# Altium schematic symbol library GRM155C80J225KE95D.SchLib: 1 symbol
Pins are listed as number, name and electrical type; pins without a type are passive.

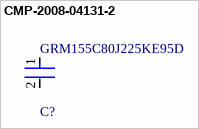
[diagram p0: symbol CMP-2008-04131-2]

## CMP-2008-04131-2
designator C?, comment GRM155C80J225KE95D
Chip Multilayer Ceramic Capacitors for General Purpose, 0402, 2.2uF, X6S, 22%, 10%, 6.3V; Width: 0.02inch; Packaging: Tape and Reel; Case/Package: 0402; Material: Ceramic; Voltage Rating: 6.3V; Thickness: 0.022inch; Length: 0.039inch; Max Operating Temperature: 105°C; Height: 0.3mm; Case Code (Imperial): 0402; Capacitance: 2.2uF; Case Code (Metric): 1005; Tolerance: 10%; Voltage Rating (DC): 6.3V; Mount: Surface Mount; Min Operating Temperature: -55°C
footprint FP-GRM155-0_05-IPC_A
footprint FP-GRM155-0_05-IPC_C
footprint FP-GRM155-0_05-IPC_B
footprint FP-GRM155-0_05-MFG
pins: 1, 2